# Altium schematic symbol library Camera-Sensor.SchLib: 4 symbols
Pins are listed as number, name and electrical type; pins without a type are passive.

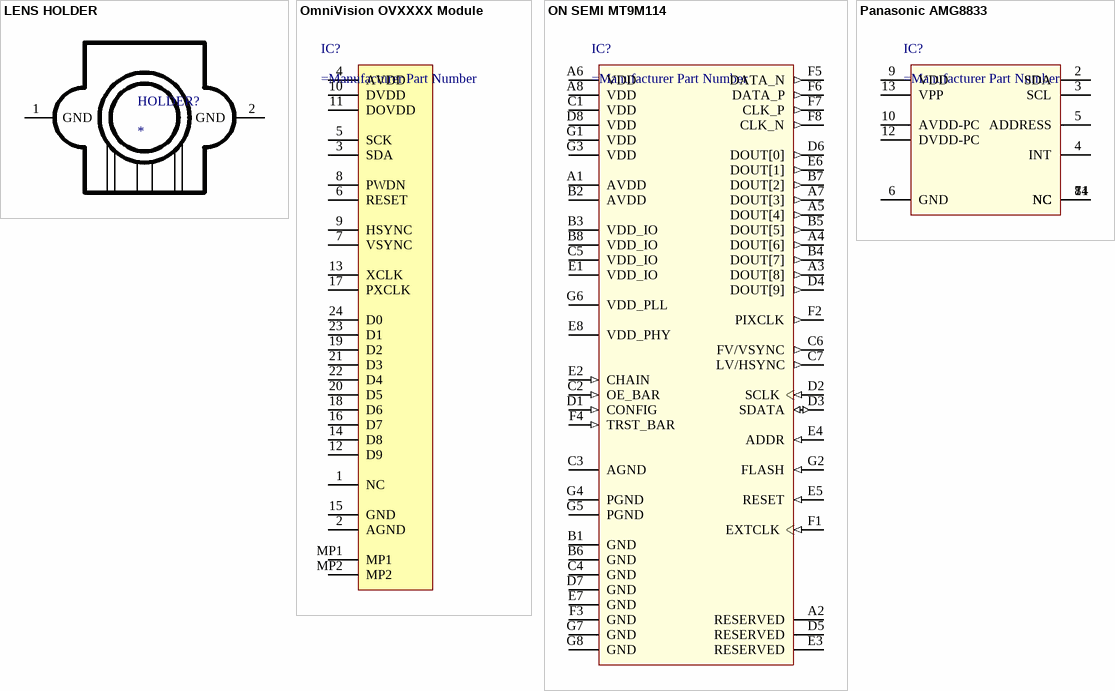
[diagram p0: symbols LENS HOLDER to Panasonic AMG8833]

## LENS HOLDER
designator HOLDER?
Pricing 1: *; Supplier: *; Supplier Link: *; Supplier Part Number: *; Manufacturer Part Number: *; Manufacturer: *
footprint M12 LENS HOLDER
pins: 1 GND, 2 GND

## OmniVision OVXXXX Module
designator IC?
pins: 1 NC, 2 AGND, 3 SDA, 4 AVDD, 5 SCK, 6 RESET, 7 VSYNC, 8 PWDN, 9 HSYNC, 10 DVDD, 11 DOVDD, 12 D9, 13 XCLK, 14 D8, 15 GND, 16 D7, 17 PXCLK, 18 D6, 19 D2, 20 D5, 21 D3, 22 D4, 23 D1, 24 D0, MP1, MP2

## ON SEMI MT9M114
designator IC?
1/6‐inch 720p High‐Definition (HD) System‐On‐a‐Chip (SOC) Digital Image Sensor
footprint ON SEMI MT9M114 BGA-55 (ODCSP55 4.7x3.9 55-Ball Package)
pins: A1 AVDD, A2 RESERVED, A3 DOUT[8] (out), A4 DOUT[6] (out), A5 DOUT[4] (out), A6 VDD, A7 DOUT[3] (out), A8 VDD, B1 GND, B2 AVDD, B3 VDD_IO, B4 DOUT[7] (out), B5 DOUT[5] (out), B6 GND, B7 DOUT[2] (out), B8 VDD_IO, C1 VDD, C2 OE_BAR (in), C3 AGND, C4 GND, C5 VDD_IO, C6 FV/VSYNC (out), C7 LV/HSYNC (out), D1 CONFIG (in), D2 SCLK (in), D3 SDATA (io), D4 DOUT[9] (out), D5 RESERVED, D6 DOUT[0] (out), D7 GND, D8 VDD, E1 VDD_IO, E2 CHAIN (in), E3 RESERVED, E4 ADDR (in), E5 RESET (in), E6 DOUT[1] (out), E7 GND, E8 VDD_PHY, F1 EXTCLK (in), F2 PIXCLK (out), F3 GND, F4 TRST_BAR (in), F5 DATA_N (out), F6 DATA_P (out), F7 CLK_P (out), F8 CLK_N (out), G1 VDD, G2 FLASH (in), G3 VDD, G4 PGND, G5 PGND, G6 VDD_PLL, G7 GND, G8 GND

## Panasonic AMG8833
designator IC?
The Panasonic Electric Works' Grid Eye is a thermopile-type infrared sensor with digital communication. Using advanced MEMS technology, the Grid Eye monitors the quantity of infrared rays for 64 pixels of data. This page describes the internal memory structure that can be accessed through an I2C interface.
footprint PANASONIC AMG8853
pins: 1 NC, 2 SDA, 3 SCL, 4 INT, 5 ADDRESS, 6 GND, 7 NC, 8 NC, 9 VDD, 10 AVDD-PC, 11 NC, 12 DVDD-PC, 13 VPP, 14 NC